# Altium schematic symbol library Diodes$.SchLib: 103 symbols
Pins are listed as number, name and electrical type; pins without a type are passive.

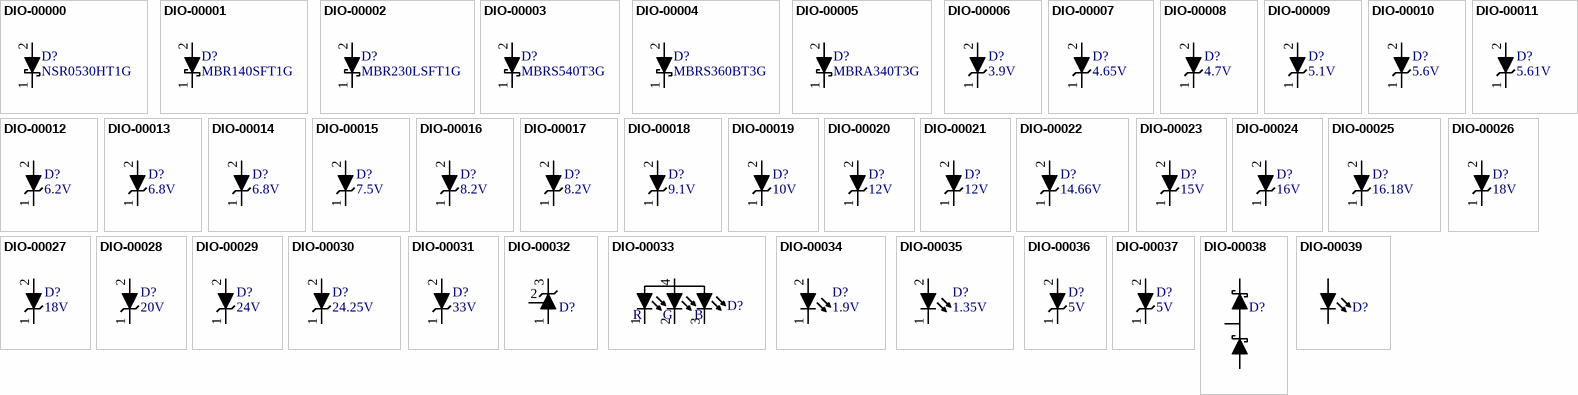
[diagram p0: symbols DIO-00000 to DIO-00039]

## DIO-00000
designator D?, comment NSR0530HT1G
Dio Shtky, 500mA, 0.62V, 30V, SOD-323; Part Number: DIO-00000; Manufacturer: ON Semi; Forward Voltage: 620mV; Type: Schottky; Reverse Breakdown Voltage: 30V; Current Rating: 500mA; Manufacturer PN: NSR0530HT1G
footprint sod323_0
pins: 1, 2

## DIO-00001
designator D?, comment MBR140SFT1G
Dio Shtky, 1A, 0.55V, 40V, SOD-123; Part Number: DIO-00001; Manufacturer: ON Semi; Forward Voltage: 550mV; Type: Schottky; Reverse Breakdown Voltage: 40V; Current Rating: 1A; Manufacturer PN: MBR140SFT1G; Distributor Link: https://www.digikey.com/en/products/detail/on-semiconductor/MBR140SFT1G/918583
footprint sod123_0
pins: 1, 2

## DIO-00002
designator D?, comment MBR230LSFT1G
Dio Shtky, 2A, 0.43V, 30V, SOD-123; Part Number: DIO-00002; Manufacturer: ON Semi; Forward Voltage: 430mV; Type: Schottky; Reverse Breakdown Voltage: 30V; Current Rating: 2A; Manufacturer PN: MBR230LSFT1G
footprint sod123_0
pins: 1, 2

## DIO-00003
designator D?, comment MBRS540T3G
Dio Shtky, 5A, 0.5V, 40V, SMC; Part Number: DIO-00003; Manufacturer: ON Semi; Forward Voltage: 500mV; Type: Schottky; Reverse Breakdown Voltage: 40V; Current Rating: 5A; Manufacturer PN: MBRS540T3G
footprint do-214ab
pins: 1, 2

## DIO-00004
designator D?, comment MBRS360BT3G
Dio Shtky, 3A, 0.63V, 60V, SMB; Part Number: DIO-00004; Manufacturer: ON Semi; Forward Voltage: 630mV; Type: Schottky; Reverse Breakdown Voltage: 60V; Current Rating: 3A; Manufacturer PN: MBRS360BT3G
footprint do-214aa
pins: 1, 2

## DIO-00005
designator D?, comment MBRA340T3G
Dio Shtky, 3A, 0.45V, 40V, SMA; Part Number: DIO-00005; Manufacturer: ON Semi; Forward Voltage: 450mV; Type: Schottky; Reverse Breakdown Voltage: 40V; Current Rating: 3A; Manufacturer PN: MBRA340T3G
footprint do-214ac
pins: 1, 2

## DIO-00006
designator D?, comment 3.9V
Dio Zen, 3.9V, 2%, 300mW, SOD-323; Part Number: DIO-00006; Manufacturer: ON Semi; Manufacturer PN: MM3Z3V9ST1G; Forward Voltage: 900mV; Type: Zener; Reverse Breakdown Voltage: 3.9V; Tolerance: 2%; Power Rating: 300mW
footprint sod323_0
pins: 1, 2

## DIO-00007
designator D?, comment 4.65V
Dio Zen, 4.65V, 2%, 200mW, SOD-923; Part Number: DIO-00007; Manufacturer: ON Semi; Manufacturer PN: NZ9F4V7ST5G; Forward Voltage: 900mV; Type: Zener; Reverse Breakdown Voltage: 4.65V; Tolerance: 2%; Power Rating: 200mW
footprint sod923_0
pins: 1, 2

## DIO-00008
designator D?, comment 4.7V
Dio Zen, 4.7V, 2%, 500mW, SOD-523; Part Number: DIO-00008; Manufacturer: ON Semi; Manufacturer PN: MM5Z4V7ST1G; Forward Voltage: 900mV; Type: Zener; Reverse Breakdown Voltage: 4.7V; Tolerance: 2%; Power Rating: 500mW
footprint sod523_0
pins: 1, 2

## DIO-00009
designator D?, comment 5.1V
Dio Zen, 5.1V, 2%, 300mW, SOD-323; Part Number: DIO-00009; Manufacturer: ON Semi; Manufacturer PN: MM3Z5V1ST1G; Forward Voltage: 900mV; Type: Zener; Reverse Breakdown Voltage: 5.1V; Tolerance: 2%; Power Rating: 300mW
footprint sod323_0
pins: 1, 2

## DIO-00010
designator D?, comment 5.6V
Dio Zen, 5.6V, 2%, 225mW, SOT-23-3; Part Number: DIO-00010; Manufacturer: ON Semi; Manufacturer PN: BZX84B5V6LT1G; Forward Voltage: 900mV; Type: Zener; Reverse Breakdown Voltage: 5.6V; Tolerance: 2%; Power Rating: 225mW
footprint sot-23-3
pins: 1, 2

## DIO-00011
designator D?, comment 5.61V
Dio Zen, 5.61V, 2%, 500mW, SOD-523; Part Number: DIO-00011; Manufacturer: ON Semi; Manufacturer PN: MM5Z5V6ST1G; Forward Voltage: 900mV; Type: Zener; Reverse Breakdown Voltage: 5.61V; Tolerance: 2%; Power Rating: 500mW
footprint sod523_0
pins: 1, 2

## DIO-00012
designator D?, comment 6.2V
Dio Zen, 6.2V, 2%, 225mW, SOT-23-3; Part Number: DIO-00012; Manufacturer: ON Semi; Manufacturer PN: BZX84B6V2LT1G; Forward Voltage: 900mV; Type: Zener; Reverse Breakdown Voltage: 6.2V; Tolerance: 2%; Power Rating: 225mW
footprint sot-23-3
pins: 1, 2

## DIO-00013
designator D?, comment 6.8V
Dio Zen, 6.8V, 2%, 200mW, SOD-323; Part Number: DIO-00013; Manufacturer: ON Semi; Manufacturer PN: MM3Z6V8ST1G; Forward Voltage: 900mV; Type: Zener; Reverse Breakdown Voltage: 6.8V; Tolerance: 2%; Power Rating: 200mW
footprint sod323_0
pins: 1, 2

## DIO-00014
designator D?, comment 6.8V
Dio Zen, 6.8V, 2%, 225mW, SOT-23-3; Part Number: DIO-00014; Manufacturer: ON Semi; Manufacturer PN: BZX84B6V8LT1G; Forward Voltage: 900mV; Type: Zener; Reverse Breakdown Voltage: 6.8V; Tolerance: 2%; Power Rating: 225mW
footprint sot-23-3
pins: 1, 2

## DIO-00015
designator D?, comment 7.5V
Dio Zen, 7.5V, 2%, 200mW, SOD-323; Part Number: DIO-00015; Manufacturer: ON Semi; Manufacturer PN: MM3Z7V5ST1G; Forward Voltage: 900mV; Type: Zener; Reverse Breakdown Voltage: 7.5V; Tolerance: 2%; Power Rating: 200mW
footprint sod323_0
pins: 1, 2

## DIO-00016
designator D?, comment 8.2V
Dio Zen, 8.2V, 2%, 300mW, SOD-323; Part Number: DIO-00016; Manufacturer: ON Semi; Manufacturer PN: MM3Z8V2ST1G; Forward Voltage: 900mV; Type: Zener; Reverse Breakdown Voltage: 8.2V; Tolerance: 2%; Power Rating: 300mW
footprint sod323_0
pins: 1, 2

## DIO-00017
designator D?, comment 8.2V
Dio Zen, 8.2V, 2%, 225mW, SOT-23-3; Part Number: DIO-00017; Manufacturer: ON Semi; Manufacturer PN: BZX84B8V2LT1G; Forward Voltage: 900mV; Type: Zener; Reverse Breakdown Voltage: 8.2V; Tolerance: 2%; Power Rating: 225mW
footprint sot-23-3
pins: 1, 2

## DIO-00018
designator D?, comment 9.1V
Dio Zen, 9.1V, 2%, 300mW, SOD-323; Part Number: DIO-00018; Manufacturer: ON Semi; Manufacturer PN: MM3Z9V1ST1G; Forward Voltage: 900mV; Type: Zener; Reverse Breakdown Voltage: 9.1V; Tolerance: 2%; Power Rating: 300mW
footprint sod323_0
pins: 1, 2

## DIO-00019
designator D?, comment 10V
Dio Zen, 10V, 2%, 200mW, SOD-323; Part Number: DIO-00019; Manufacturer: ON Semi; Manufacturer PN: MM3Z10VST1G; Forward Voltage: 900mV; Type: Zener; Reverse Breakdown Voltage: 10V; Tolerance: 2%; Power Rating: 200mW
footprint sod323_0
pins: 1, 2

## DIO-00020
designator D?, comment 12V
Dio Zen, 12V, 2%, 200mW, SOD-323; Part Number: DIO-00020; Manufacturer: ON Semi; Manufacturer PN: MM3Z12VST1G; Forward Voltage: 900mV; Type: Zener; Reverse Breakdown Voltage: 12V; Tolerance: 2%; Power Rating: 200mW
footprint sod323_0
pins: 1, 2

## DIO-00021
designator D?, comment 12V
Dio Zen, 12V, 2%, 225mW, SOT-23-3; Part Number: DIO-00021; Manufacturer: ON Semi; Manufacturer PN: BZX84B12LT1G; Forward Voltage: 900mV; Type: Zener; Reverse Breakdown Voltage: 12V; Tolerance: 2%; Power Rating: 225mW
footprint sot-23-3
pins: 1, 2

## DIO-00022
designator D?, comment 14.66V
Dio Zen, 14.66V, 2%, 200mW, SOD-323; Part Number: DIO-00022; Manufacturer: ON Semi; Manufacturer PN: MM3Z15VST1G; Forward Voltage: 900mV; Type: Zener; Reverse Breakdown Voltage: 14.66V; Tolerance: 2%; Power Rating: 200mW
footprint sod323_0
pins: 1, 2

## DIO-00023
designator D?, comment 15V
Dio Zen, 15V, 2%, 225mW, SOT-23-3; Part Number: DIO-00023; Manufacturer: ON Semi; Manufacturer PN: BZX84B15LT1G; Forward Voltage: 900mV; Type: Zener; Reverse Breakdown Voltage: 15V; Tolerance: 2%; Power Rating: 225mW
footprint sot-23-3
pins: 1, 2

## DIO-00024
designator D?, comment 16V
Dio Zen, 16V, 2%, 225mW, SOT-23-3; Part Number: DIO-00024; Manufacturer: ON Semi; Manufacturer PN: BZX84B16LT1G; Forward Voltage: 900mV; Type: Zener; Reverse Breakdown Voltage: 16V; Tolerance: 2%; Power Rating: 225mW
footprint sot-23-3
pins: 1, 2

## DIO-00025
designator D?, comment 16.18V
Dio Zen, 16.18V, 2%, 200mW, SOD-323; Part Number: DIO-00025; Manufacturer: ON Semi; Manufacturer PN: MM3Z16VST1G; Forward Voltage: 900mV; Type: Zener; Reverse Breakdown Voltage: 16.18V; Tolerance: 2%; Power Rating: 200mW; Distributor Link: https://www.digikey.com/en/products/detail/on-semiconductor/MM3Z16VST1G/1481864
footprint sod323_0
pins: 1, 2

## DIO-00026
designator D?, comment 18V
Dio Zen, 18V, 2%, 200mW, SOD-323; Part Number: DIO-00026; Manufacturer: ON Semi; Manufacturer PN: SZMM3Z18VST1G; Forward Voltage: 900mV; Type: Zener; Reverse Breakdown Voltage: 18V; Tolerance: 2%; Power Rating: 200mW
footprint sod323_0
pins: 1, 2

## DIO-00027
designator D?, comment 18V
Dio Zen, 18V, 2%, 200mW, SOD-323; Part Number: DIO-00027; Manufacturer: ON Semi; Manufacturer PN: MM3Z18VST1G; Forward Voltage: 900mV; Type: Zener; Reverse Breakdown Voltage: 18V; Tolerance: 2%; Power Rating: 200mW
footprint sod323_0
pins: 1, 2

## DIO-00028
designator D?, comment 20V
Dio Zen, 20V, 2%, 500mW, SOD-123; Part Number: DIO-00028; Manufacturer: ON Semi; Manufacturer PN: MMSZ5250CT1G; Forward Voltage: 900mV; Type: Zener; Reverse Breakdown Voltage: 20V; Tolerance: 2%; Power Rating: 500mW
footprint sod123_0
pins: 1, 2

## DIO-00029
designator D?, comment 24V
Dio Zen, 24V, 2%, 500mW, SOD-123; Part Number: DIO-00029; Manufacturer: ON Semi; Manufacturer PN: MMSZ5252CT1G; Forward Voltage: 900mV; Type: Zener; Reverse Breakdown Voltage: 24V; Tolerance: 2%; Power Rating: 500mW
footprint sod123_0
pins: 1, 2

## DIO-00030
designator D?, comment 24.25V
Dio Zen, 24.25V, 2%, 200mW, SOD-323; Part Number: DIO-00030; Manufacturer: ON Semi; Manufacturer PN: MM3Z24VST1G; Forward Voltage: 900mV; Type: Zener; Reverse Breakdown Voltage: 24.25V; Tolerance: 2%; Power Rating: 200mW
footprint sod323_0
pins: 1, 2

## DIO-00031
designator D?, comment 33V
Dio Zen, 33V, 2%, 200mW, SOD-323; Part Number: DIO-00031; Manufacturer: ON Semi; Manufacturer PN: MM3Z33VST1G; Forward Voltage: 900mV; Type: Zener; Reverse Breakdown Voltage: 33V; Tolerance: 2%; Power Rating: 200mW
footprint sod323_0
pins: 1, 2

## DIO-00032
designator D?, comment shunt_adj_0  (value not drawn)
Shunt Adj, 2.5V, 0.5%, SOT-23-3; Part Number: DIO-00032; Manufacturer: Diodes; Manufacturer PN: ZTL431BFTA; Type: Adjustable Shunt; Reverse Breakdown Voltage: 2.5V; Tolerance: 0.5%
footprint sot-23-3
pins: 1, 2 3, 3

## DIO-00033
designator D?, comment led_4_ca_0  (value not drawn)
LED, RGB, Comm-Anode, PLCC-4; Part Number: DIO-00033; Manufacturer: Avago; Manufacturer PN: ASMB-MTB1-0A3A2; Forward Voltage: 2V; Current Rating: 20mA; Type: LED
footprint plcc-4
pins: 1, 2, 3, 4
text: R; G; B

## DIO-00034
designator D?, comment 1.9V
LED, Orange, PLCC-4; Part Number: DIO-00034; Manufacturer: Avago; Manufacturer PN: HSML-A101-S00J1; Current Rating: 20mA; Forward Voltage: 1.9V; Type: LED
footprint plcc-2
pins: 1, 2

## DIO-00035
designator D?, comment 1.35V
LED, 940nm, 80mW/sr, 100mA; Part Number: DIO-00035; Manufacturer: Vishay; Manufacturer PN: TSAL6100; Forward Voltage: 1.35V; Current Rating: 100mA; Type: LED
footprint LED_0.1_0
pins: 1, 2

## DIO-00036
designator D?, comment 5V
TVS, 5V, 400W, Unidirectional; Part Number: DIO-00036; Manufacturer: ST; Manufacturer PN: SMAJ5.0A-TR; Reverse Breakdown Voltage: 5V; Power Rating: 400W; Type: TVS; Cost: 0.48
footprint do-214ac
pins: 1, 2

## DIO-00037
designator D?, comment 5V
TVS, 5V, 500W, SOD-323; Part Number: DIO-00037; Manufacturer: ST; Manufacturer PN: ESDA8V2-1J; Reverse Breakdown Voltage: 5V; Power Rating: 500W; Type: TVS; Cost: 0.33
footprint sod323_0
pins: 1, 2

## DIO-00038
designator D?, comment diode_6  (value not drawn)
Dio Schottky, series, 225mW, SOT-23-3; Part Number: DIO-00038; Manufacturer: ON Semi; Manufacturer PN: BAT54SLT1G; Forward Voltage: 800mV; Reverse Breakdown Voltage: 30V; Current Rating: 200mA; Power Rating: 225mW; Type: Schottky; Cost: 0.19
footprint sot-23-3
pins: 1, 2, 3

## DIO-00039
designator D?, comment diode_7  (value not drawn)
LED, cool white, PLCC-4; Part Number: DIO-00039; Manufacturer: Cree; Manufacturer PN: CLA1B-WKW-XD0F0E13; Forward Voltage: 3.2V; Power Rating: 304mW; Current Rating: 30mA; Type: LED
footprint plcc-4
pins: 2, 4

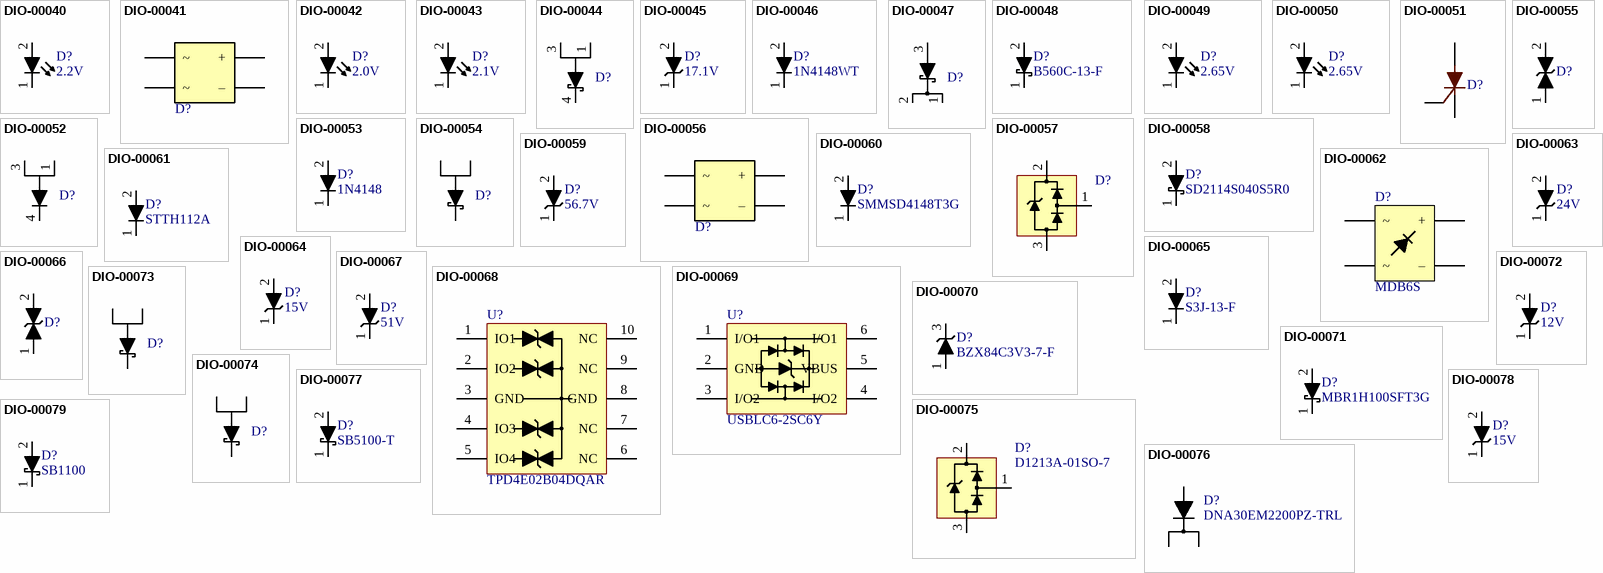
[diagram p1: symbols DIO-00040 to DIO-00079]

## DIO-00040
designator D?, comment 2.2V
LED, Green, 0603, 20mA; Part Number: DIO-00040; Manufacturer: Rohm Semi; Manufacturer PN: SML-D12M8WT86; Reverse Breakdown Voltage: 5V; Power Rating: 54mW; Forward Voltage: 2.2V; Current Rating: 20mA; Type: LED; Cost: 0.34
footprint chip_0603_LED
pins: 1, 2

## DIO-00041
designator D?, comment rect_0  (value not drawn)
Dio Bridge Rect, 35A; Part Number: DIO-00041; Manufacturer: Vishay; Manufacturer PN: GBPC3502W-E4/51; Forward Voltage: 1.1V; Current Rating: 35A; Type: Bridge; Cost: 5.26
footprint rect_GBPC-W
pins: 1 +, 2 ~, 3 ~, 4 –

## DIO-00042
designator D?, comment 2.0V
LED, Red, 75mW, 30mA; Part Number: DIO-00042; Manufacturer: Kingbright; Manufacturer PN: APA3010EC-GX; Reverse Breakdown Voltage: 5V; Forward Voltage: 2.0V; Power Rating: 75mW; Current Rating: 30mA; Type: LED
footprint APA3010
pins: 1, 2

## DIO-00043
designator D?, comment 2.1V
LED, Green, 75mW, 30mA; Part Number: DIO-00043; Manufacturer: Kingbright; Manufacturer PN: APA3010QGC-GX; Reverse Breakdown Voltage: 5V; Forward Voltage: 2.1V; Power Rating: 75mW; Current Rating: 30mA; Type: LED
footprint APA3010
pins: 1, 2

## DIO-00044
designator D?, comment diode_8  (value not drawn)
Dio Schottky, 40A, 0.86V, 250V, D2PAK, 35ns Reverse Recovery; Part Number: DIO-00044; Manufacturer: ON Semi; Manufacturer PN: MBRB40250TG; Forward Voltage: 0.86V; Reverse Breakdown Voltage: 250V; Current Rating: 40A; Type: Schottky; Cost: 2.01
footprint D2PAK-3_0
pins: 1, 3, 4

## DIO-00045
designator D?, comment 17.1V
Dio Zen, 17.1V, 590mW; Part Number: DIO-00045; Manufacturer: Nexperia; Manufacturer PN: BZT52-C16J; Forward Voltage: 0.9V; Tolerance: 5%; Current Rating: 250mA; Type: Zener; Reverse Breakdown Voltage: 17.1V; Power Rating: 590mW; Cost: 0.19
footprint sod123_0
pins: 1, 2

## DIO-00046
designator D?, comment 1N4148WT
Dio, Silicon, 200mA, 1V, 75V, SOD-523; Part Number: DIO-00046; Manufacturer: ON Semi; Forward Voltage: 1V; Reverse Breakdown Voltage: 75V; Current Rating: 200mA; Type: Silicon; Manufacturer PN: 1N4148WT; Cost: 0.19
footprint sod523_0
pins: 1, 2

## DIO-00047
designator D?, comment diode_9  (value not drawn)
Dio, SiC Schottky, 10A, 1.8V, 1.2kV, Dpak; Part Number: DIO-00047; Manufacturer: Cree/Wolfspeed; Manufacturer PN: C4D02120E; Reverse Breakdown Voltage: 1200V; Power Rating: 60W; Forward Voltage: 1.8V; Current Rating: 10A; Type: SiC Schottky; Cost: 2.26
footprint DPAK_0
pins: 1 C1, 2 C2, 3 A

## DIO-00048
designator D?, comment B560C-13-F
Dio, Schottky, 5A, 700mV, 60V, SMC; Part Number: DIO-00048; Manufacturer: Diodes Incorporated; Forward Voltage: 700mV; Reverse Breakdown Voltage: 60V; Current Rating: 5A; Type: Schottky; Manufacturer PN: B560C-13-F; Cost: 0.5
footprint do-214ab
pins: 1, 2

## DIO-00049
designator D?, comment 2.65V
LED, Blue, 0603, Low current, HELI2 Series; Part Number: DIO-00049; Manufacturer: Kingbright; Manufacturer PN: APT1608LVBC/D; Reverse Breakdown Voltage: 5V; Power Rating: 120mW; Current Rating: 30mA; Forward Voltage: 2.65V; Type: LED; Cost: 0.58; Distributor Link: https://www.digikey.com/en/products/detail/kingbright/APT1608LVBC-D/5177434
footprint chip_0603_LED
pins: 1, 2

## DIO-00050
designator D?, comment 2.65V
LED, Green, 0603, Low current, HELI2 Series; Part Number: DIO-00050; Manufacturer: Kingbright; Manufacturer PN: APT1608LZGCK; Reverse Breakdown Voltage: 5V; Power Rating: 120mW; Current Rating: 30mA; Forward Voltage: 2.65V; Type: LED; Cost: 0.58
footprint chip_0603_LED
pins: 1, 2

## DIO-00051
designator D?, comment scr_0  (value not drawn)
SCR, 1.6kV 48A, 100mA trigger, TO-247; Part Number: DIO-00051; Manufacturer: Ixys; Manufacturer PN: CS45-16IO1R; Forward Voltage: 1.64V; Reverse Breakdown Voltage: 1.6kV; Current Rating: 48A; Type: SCR; Cost: 6.23
footprint TO-247_0
pins: 1 K, 2 A, 3 G

## DIO-00052
designator D?, comment diode_10  (value not drawn)
Dio, Silicon, 30A, 1.25V, 1.6kV, D2PAK; Part Number: DIO-00052; Manufacturer: Ixys; Manufacturer PN: DSI30-16AS-TRL; Power Rating: 160W; Forward Voltage: 1.25V; Reverse Breakdown Voltage: 1.6kV; Current Rating: 30A; Type: Silicon; Cost: 2.19
footprint D2PAK-3_1
pins: 1, 3, 4

## DIO-00053
designator D?, comment 1N4148
Dio, Silicon, 200mA, 1V, 75V, Axial 0.2"; Part Number: DIO-00053; Forward Voltage: 1V; Reverse Breakdown Voltage: 75V; Current Rating: 200mA; Type: Silicon; Manufacturer PN: 1N4148
footprint AXIAL_DIO_0.2
pins: 1, 2

## DIO-00054
designator D?, comment diode_sch_A12C3  (value not drawn)
Dio, Schottky, 15A, 0.85V, 150V, TO-227; Part Number: DIO-00054; Manufacturer: ON Semi; Manufacturer PN: FSV15150V; Forward Voltage: 0.85V; Reverse Breakdown Voltage: 150V; Current Rating: 15A; Type: Schottky; Cost: 0.82; Distributor Link: https://www.digikey.com/en/products/detail/on-semiconductor/FSV15150V/5306664?s=N4IgTCBcDaIGIGUBqBGArOgDEkBdAvkA
footprint TO-277-3
pins: 1, 2, 3

## DIO-00055
designator D?, comment diode_5  (value not drawn)
TVS, 5V, 400W, Bidirectional; Part Number: DIO-00055; Manufacturer: ST; Manufacturer PN: SMAJ5.0CA-TR; Reverse Breakdown Voltage: 5V; Power Rating: 400W; Type: TVS; Cost: 0.43
footprint do-214ac
pins: 1, 2

## DIO-00056
designator D?, comment rect_0  (value not drawn)
Bridge, 25A, 1.05V, 600V, GBJ; Part Number: DIO-00056; Manufacturer: Diodes Incorporated; Manufacturer PN: GBJ2506-F; Forward Voltage: 1.05V; Reverse Breakdown Voltage: 600V; Current Rating: 25A; Type: Bridge; Cost: 1.33
footprint SIP-4-GBJ
pins: 1 +, 2 ~, 3 ~, 4 –

## DIO-00057
designator D?, comment DLPT05  (value not drawn)
TVS, Steering (Rail-Rail), 9.8V Clamping, 17A Peak Pulse, SOT-23; Part Number: DIO-00057; Manufacturer: Diodes Incorporated; Manufacturer PN: DLPT05-7-F; Reverse Breakdown Voltage: 6.0V; Type: TVS; Cost: 0.38; Distributor Link: https://www.digikey.com/en/products/detail/diodes-incorporated/DLPT05-7-F/808520
footprint sot-23-3
pins: 1 LINE, 2 VCC, 3 GND

## DIO-00058
designator D?, comment SD2114S040S5R0
Dio, Schottky, 5A, 520mV, 40V, DO-214AB; Part Number: DIO-00058; Manufacturer: AVX; Forward Voltage: 0.52V; Reverse Breakdown Voltage: 40V; Current Rating: 5A; Type: Schottky; Manufacturer PN: SD2114S040S5R0; Cost: 0.74
footprint do-214ab
pins: 1, 2

## DIO-00059
designator D?, comment 56.7V
TVS, 51V, 4.9A 400W, Unidirectional, DO-214AC; Part Number: DIO-00059; Manufacturer: Littelfuse; Manufacturer PN: SMAJ51A; Reverse Breakdown Voltage: 56.7V; Power Rating: 400W; Current Rating: 4.9A; Type: TVS; Cost: 0.4
footprint do-214ac
pins: 1, 2

## DIO-00060
designator D?, comment SMMSD4148T3G
Dio, Silicon, 200mA, 1V, 100V, SOD-123; Part Number: DIO-00060; Manufacturer: ON Semi; Forward Voltage: 1.0V; Reverse Breakdown Voltage: 100V; Current Rating: 200mA; Type: Silicon; Manufacturer PN: SMMSD4148T3G; Cost: 0.38
footprint sod123_0
pins: 1, 2

## DIO-00061
designator D?, comment STTH112A
Dio, Silicon, 1A, 1.65V, 1.2kV, High Voltage, 75ns RR-time, DO-214AC; Part Number: DIO-00061; Manufacturer: ST; Reverse Breakdown Voltage: 1200V; Forward Voltage: 1.65V; Current Rating: 1A; Type: Silicon; Manufacturer PN: STTH112A; Cost: 0.42
footprint do-214ac
pins: 1, 2

## DIO-00062
designator D?, comment MDB6S
Dio Bridge Rect, 600V 1A, 4-MicroDIP/SMD; Part Number: DIO-00062; Manufacturer: ON Semi; Forward Voltage: 1.1V; Type: Silicon; Reverse Breakdown Voltage: 600V; Current Rating: 1A; Manufacturer PN: MDB6S; Cost: 0.35
footprint 4-MICRO-DIP-SMD
pins: 1 +, 2 –, 3 ~, 4 ~

## DIO-00063
designator D?, comment 24V
Dio, Zen, 24V 1W, SMA/DO-214AC; Part Number: DIO-00063; Manufacturer: Diodes Incorporated; Manufacturer PN: SMAZ24-13-F; Forward Voltage: 1.2V; Tolerance: 5%; Type: Zener; Reverse Breakdown Voltage: 24V; Power Rating: 1W; Cost: 0.45
footprint do-214ac
pins: 1, 2

## DIO-00064
designator D?, comment 15V
Dio, Zen, 15V 1W, SMA/DO-214AC; Part Number: DIO-00064; Manufacturer: Diodes Incorporated; Manufacturer PN: SMAZ15-13-F; Forward Voltage: 1.2V; Tolerance: 5%; Type: Zener; Reverse Breakdown Voltage: 15V; Power Rating: 1W; Cost: 0.45
footprint do-214ac
pins: 1, 2

## DIO-00065
designator D?, comment S3J-13-F
Dio, Silicon, 3A, 600V, DO-214AB; Part Number: DIO-00065; Manufacturer: Diodes Incorporated; Forward Voltage: 1.15V; Power Rating: 3.45W; Reverse Breakdown Voltage: 600V; Current Rating: 3A; Type: Silicon; Manufacturer PN: S3J-13-F; Cost: 0.35
footprint do-214ab
pins: 1, 2

## DIO-00066
designator D?, comment diode_5  (value not drawn)
TVS, 12V, 19.9V@40A, 400W 40A Peak, Bidirectional, DO-214AC; Part Number: DIO-00066; Manufacturer: Bourns; Manufacturer PN: SMAJ12CA; Reverse Breakdown Voltage: 14.7V; Power Rating: 400W; Current Rating: 40A; Type: TVS; Cost: 0.4
footprint do-214ac
pins: 1, 2

## DIO-00067
designator D?, comment 51V
Dio, Zen, 51V, 6%, 410mW, SOD-123; Part Number: DIO-00067; Manufacturer: Diodes Incorporated; Manufacturer PN: BZT52C51-7-F; Type: Zener; Reverse Breakdown Voltage: 51V; Tolerance: 6%; Power Rating: 410mW; Cost: 0.2
footprint sod123_0
pins: 1, 2

## DIO-00068
designator U?, comment TPD4E02B04DQAR
TVS, 4-Ch, ESD Protec, 3.6V 8.8V 10-USON; Part Number: DIO-00068; Manufacturer: TI; Power Rating: 17W; Current Rating: 2A; Type: TVS; Manufacturer PN: TPD4E02B04DQAR; Cost: 0.56; Distributor Link: https://www.digikey.com/en/products/detail/texas-instruments/TPD4E02B04DQAR/5880125
footprint USON-10
pins: 1 IO1, 2 IO2, 3 GND, 4 IO3, 5 IO4, 6 NC, 7 NC, 8 GND, 9 NC, 10 NC

## DIO-00069
designator U?, comment USBLC6-2SC6Y
ESD Protec, 2-Ch, 2.5pF, 17V clamping voltage, SOT23-6; Part Number: DIO-00069; Manufacturer: ST; Forward Voltage: 1.1V; Reverse Breakdown Voltage: 6V; Current Rating: 5A; Type: TVS; Manufacturer PN: USBLC6-2SC6Y; Cost: 0.73; Distributor Link: https://www.digikey.com/en/products/detail/stmicroelectronics/USBLC6-2SC6Y/2819177
footprint sot-23-6
pins: 1 I/O1, 2 GND, 3 I/O2, 4 I/O2, 5 VBUS, 6 I/O1

## DIO-00070
designator D?, comment BZX84C3V3-7-F
Dio, Zener, 3.3V 6% 300mW SOT-23-3; Part Number: DIO-00070; Manufacturer: Diodes Incorporated; Forward Voltage: 0.9V; Reverse Breakdown Voltage: 3.3V; Tolerance: 6%; Power Rating: 300mW; Type: Zener; Manufacturer PN: BZX84C3V3-7-F; Cost: 0.16
footprint sot-23-3
pins: 1, 3

## DIO-00071
designator D?, comment MBR1H100SFT3G
Dio, Schottky, 1A 100V SOD-123F; Part Number: DIO-00071; Manufacturer: ON Semi; Forward Voltage: 0.76V; Reverse Breakdown Voltage: 100V; Current Rating: 1A; Type: Schottky; Manufacturer PN: MBR1H100SFT3G; Cost: 0.44
footprint sod123_0
pins: 1, 2

## DIO-00072
designator D?, comment 12V
Dio, Zener, 12V 5% 500mW SOD-123; Part Number: DIO-00072; Manufacturer: ON Semi; Manufacturer PN: MMSZ5242BT1G; Forward Voltage: 0.9V; Current Rating: 40mA; Reverse Breakdown Voltage: 12V; Tolerance: 5%; Power Rating: 500mW; Type: Zener; Cost: 0.21
footprint sod123_0
pins: 1, 2

## DIO-00073
designator D?, comment diode_sch_A12C3  (value not drawn)
Dio, Schottky, 10A, 0.67V, 100V, TO-227; Part Number: DIO-00073; Manufacturer: ON Semi; Manufacturer PN: FSV10100V; Forward Voltage: 0.67V; Reverse Breakdown Voltage: 100V; Current Rating: 10A; Type: Schottky; Cost: 0.59
footprint TO-277-3
pins: 1, 2, 3

## DIO-00074
designator D?, comment diode_sch_A12C3  (value not drawn)
Dio, Schottky, 5A, 0.63V, 60V, TO-227; Part Number: DIO-00074; Manufacturer: Vishay; Manufacturer PN: SS5P6-M3/86A; Forward Voltage: 0.63V; Reverse Breakdown Voltage: 60V; Current Rating: 5A; Type: Schottky; Cost: 0.6; Distributor Link: https://www.digikey.com/en/products/detail/vishay-general-semiconductor-diodes-division/SS5P6-M3-86A/2048208
footprint TO-277-3
pins: 1, 2, 3

## DIO-00075
designator D?, comment D1213A-01SO-7
TVS, Rail-Rail Steering + Zener Clamp, 3.3V Standoff, 10V Clamping; Part Number: DIO-00075; Manufacturer: Diodes Incorporated; Reverse Breakdown Voltage: 6V; Current Rating: 1A; Type: TVS; Manufacturer PN: D1213A-01SO-7; Cost: 0.35
footprint SOT-23-3_1
pins: 1 LINE, 2 VCC, 3 GND

## DIO-00076
designator D?, comment DNA30EM2200PZ-TRL
Dio, Silicon, High Voltage Rectifier, 30A 2200V, D2PAK (TO-263); Part Number: DIO-00076; Manufacturer: IXYS; Forward Voltage: 1.24V; Type: Standard; Reverse Breakdown Voltage: 2200V; Current Rating: 30A; Manufacturer PN: DNA30EM2200PZ-TRL; Cost: 3.68
footprint D2PAK-3_HV
pins: 1, 3, 4

## DIO-00077
designator D?, comment SB5100-T
Dio, Schottky Barrier Rectifier, 100V 5A, 150A Surge, THT; Part Number: DIO-00077; Manufacturer: Diodes Incorporated; Forward Voltage: 0.8V; Reverse Breakdown Voltage: 100V; Current Rating: 5A; Type: Schottky; Manufacturer PN: SB5100-T; Cost: 0.68
footprint AXIAL_DIO_0.5_SCHOTTKY
pins: 1, 2

## DIO-00078
designator D?, comment 15V
Dio, Zener, 15V 500mW Axial 0.4"; Part Number: DIO-00078; Reverse Breakdown Voltage: 15V; Type: Zener
footprint AXIAL_DIO_0.4_ZENER
pins: 1, 2

## DIO-00079
designator D?, comment SB1100
Dio, Schottky, 1A 100V Axial 0.4"; Part Number: DIO-00079; Manufacturer: ON Semi; Forward Voltage: 0.85V; Reverse Breakdown Voltage: 100V; Current Rating: 1A; Type: Schottky; Manufacturer PN: SB1100; Cost: 0.36
footprint AXIAL_DIO_0.4_SCHOTTKY
pins: 1, 2

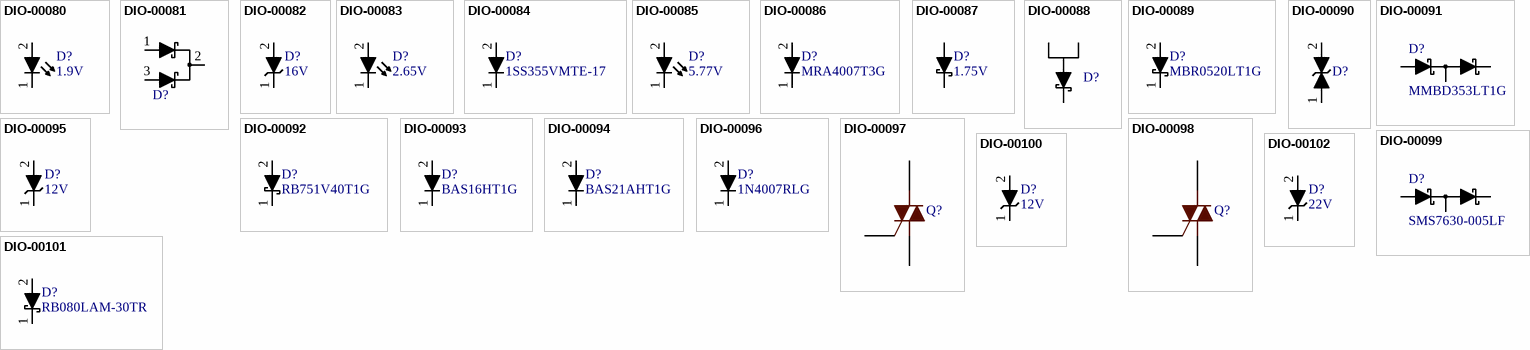
[diagram p2: symbols DIO-00080 to DIO-00102]

## DIO-00080
designator D?, comment 1.9V
LED, Red, 5mm Thru-Hole; Part Number: DIO-00080; Power Rating: 105mW; Current Rating: 20mA; Forward Voltage: 1.9V; Type: LED; Cost: 0.1
footprint LED_5MM_RED
pins: 1, 2

## DIO-00081
designator D?, comment V40PWM10C-M3/I  (value not drawn)
Dio, Schottky Array, Dual, Common Cathode, 100V 20A, SLIM DPAK; Part Number: DIO-00081; Manufacturer: Vishay; Forward Voltage: 0.89V; Reverse Breakdown Voltage: 100V; Current Rating: 20A; Type: Schottky; Manufacturer PN: V40PWM10C-M3/I; Cost: 1.37
footprint DPAK_SLIM
pins: 1 A, 2 K, 3 A

## DIO-00082
designator D?, comment 16V
Dio, Zener, 16V 300mW, SOD-523; Part Number: DIO-00082; Manufacturer: Nexperia; Manufacturer PN: BZX585-C16,115; Forward Voltage: 1.1V; Tolerance: 5%; Current Rating: 100mA; Reverse Breakdown Voltage: 16V; Power Rating: 300mW; Type: Zener; Cost: 0.25
footprint sod523_0
pins: 1, 2

## DIO-00083
designator D?, comment 2.65V
LED, Green, SMD Right-Angle, Low-Current, Kingbright HELI2 Series; Part Number: DIO-00083; Manufacturer PN: APA2107LZGCK; Reverse Breakdown Voltage: 5V; Power Rating: 102.5mW; Current Rating: 25mA; Forward Voltage: 2.65V; Type: LED; Manufacturer: Kingbright; Cost: 0.51
footprint APA2107
pins: 1, 2

## DIO-00084
designator D?, comment 1SS355VMTE-17
Dio, Silicon, High Speed Switching, 80V 100mA, SOD-323; Part Number: DIO-00084; Manufacturer: Rohm Semi; Forward Voltage: 1.2V; Reverse Breakdown Voltage: 80V; Current Rating: 100mA; Type: Silicon; Manufacturer PN: 1SS355VMTE-17; Cost: 0.18
footprint sod323_0
pins: 1, 2

## DIO-00085
designator D?, comment 5.77V
LED, WHITE 4000K JR5050 6V (5W); Part Number: DIO-00085; Manufacturer: Cree Inc.; Manufacturer PN: JR5050AWT-P-B40EB0000-N0000001; Reverse Breakdown Voltage: 5V; Current Rating: 1A; Forward Voltage: 5.77V; Power Rating: 5W; Type: LED; Cost: 0.6
footprint CREE-JR5050
pins: 1, 2

## DIO-00086
designator D?, comment MRA4007T3G
Dio, Silicon, General Purpose, 1000V 1A, SMA; Part Number: DIO-00086; Manufacturer: ON Semi; Forward Voltage: 1.1V; Reverse Breakdown Voltage: 1000V; Current Rating: 1A; Type: Silicon; Manufacturer PN: MRA4007T3G; Cost: 0.3
footprint do-214ac
pins: 1, 2

## DIO-00087
designator D?, comment 1.75V
Dio, SiC Schottky, 10A, 1.75V, 650V, DPAK; Part Number: DIO-00087; Manufacturer: ST; Manufacturer PN: STPSC10H065B-TR; Forward Voltage: 1.75V; Reverse Breakdown Voltage: 650V; Current Rating: 10A; Type: Schottky; Cost: 3.31
footprint DPAK_0
pins: 2, 3

## DIO-00088
designator D?, comment diode_sch_A12C3  (value not drawn)
Dio, Schottky, 7A, 0.62V, 60V, PowerDI5; Part Number: DIO-00088; Manufacturer: ON Semi; Manufacturer PN: PDS760-13; Forward Voltage: 0.62V; Reverse Breakdown Voltage: 60V; Current Rating: 7A; Type: Schottky; Cost: 1.02
footprint POWERDI5
pins: 1, 2, 3

## DIO-00089
designator D?, comment MBR0520LT1G
Dio, Schottky, 0.5A, 0.385V, 20V, SOD-123; Part Number: DIO-00089; Manufacturer: ON Semi; Current Rating: 500mA; Forward Voltage: 0.385V; Reverse Breakdown Voltage: 20V; Type: Schottky; Manufacturer PN: MBR0520LT1G; Cost: 0.34; Distributor Link: https://www.digikey.com/en/products/detail/on-semiconductor/MBR0520LT1G/918574
footprint sod123_0
pins: 1, 2

## DIO-00090
designator D?, comment diode_5  (value not drawn)
TVS, 28V, 45.5V@66A, 3kW 66A Peak, Bidirectional, DO-214AC; Part Number: DIO-00090; Manufacturer: ST; Manufacturer PN: SMC30J28CA; Reverse Breakdown Voltage: 31.1V; Power Rating: 3000W; Current Rating: 66A; Type: TVS; Cost: 1.2; Distributor Link: https://www.digikey.com/en/products/detail/stmicroelectronics/SMC30J28CA/2826980
footprint do-214ab
pins: 1, 2

## DIO-00091
designator D?, comment MMBD353LT1G
Dio, RF Schottky, 1 Pair Series, Vr=7V, 225mW, SOT-23-3; Part Number: DIO-00091; Manufacturer: ON Semi; Forward Voltage: 0.5V; Reverse Breakdown Voltage: 7V; Current Rating: 10mA; Power Rating: 225mW; Type: Schottky; Manufacturer PN: MMBD353LT1G; Cost: 0.39; Distributor Link: https://www.digikey.com/en/products/detail/on-semiconductor/MMBD353LT1G/919569
footprint SOT-23-3_1
pins: 1, 2, 3

## DIO-00092
designator D?, comment RB751V40T1G
Dio, Schottky, 30V 30mA, 500nA Reverse Leakage, SOD-323; Part Number: DIO-00092; Manufacturer: ON Semi; Forward Voltage: 0.37V; Reverse Breakdown Voltage: 30V; Current Rating: 30mA; Type: Schottky; Manufacturer PN: RB751V40T1G; Cost: 0.22; Distributor Link: https://www.digikey.com/en/products/detail/on-semiconductor/RB751V40T1G/920294
footprint sod323_0
pins: 1, 2

## DIO-00093
designator D?, comment BAS16HT1G
Dio, Silicon, 100V 200mA, SOD-323; Part Number: DIO-00093; Manufacturer: ON Semi; Forward Voltage: 1.25V; Reverse Breakdown Voltage: 100V; Current Rating: 200mA; Type: Silicon; Manufacturer PN: BAS16HT1G; Cost: 0.11; Distributor Link: https://www.digikey.com/en/products/detail/on-semiconductor/BAS16HT1G/918301
footprint sod323_0
pins: 1, 2

## DIO-00094
designator D?, comment BAS21AHT1G
Dio, Silicon, 250V 200mA, Low Leakage, SOD-323; Part Number: DIO-00094; Manufacturer: ON Semi; Forward Voltage: 1.25V; Reverse Breakdown Voltage: 250V; Current Rating: 200mA; Type: Silicon; Manufacturer PN: BAS21AHT1G; Cost: 0.18; Distributor Link: https://www.digikey.com/en/products/detail/on-semiconductor/BAS21AHT1G/1792156
footprint sod323_0
pins: 1, 2

## DIO-00095
designator D?, comment 12V
Dio, Zener, 12V 500mW DO-35; Part Number: DIO-00095; Manufacturer: ON Semi; Manufacturer PN: 1N5242BTR; Forward Voltage: 1.2V; Tolerance: 5%; Current Rating: 200mA; Reverse Breakdown Voltage: 12V; Power Rating: 500mW; Type: Zener; Cost: 0.14; Distributor Link: https://www.digikey.com/en/products/detail/on-semiconductor/1N5242BTR/977598
footprint AXIAL_DIO_0.4_ZENER
pins: 1, 2

## DIO-00096
designator D?, comment 1N4007RLG
Dio, Silicon, 1000V 1A, General Purpose, 1N4007, DO-41; Part Number: DIO-00096; Manufacturer: ON Semi; Forward Voltage: 1.1V; Reverse Breakdown Voltage: 1000V; Current Rating: 1A; Type: Silicon; Manufacturer PN: 1N4007RLG; Cost: 0.2; Distributor Link: https://www.digikey.com/en/products/detail/on-semiconductor/1N4007RLG/918021
footprint AXIAL_DIO_0.4
pins: 1, 2

## DIO-00097
designator Q?, comment triac  (value not drawn)
Triac, 600V 16A, 10mA Gate Trigger, TO-220 Vertical; Part Number: DIO-00097; Manufacturer: ST; Manufacturer PN: T1610H-6T; Forward Voltage: 1.3V; Reverse Breakdown Voltage: 600V; Current Rating: 16A; Type: Triac; Cost: 1.22; Distributor Link: https://www.digikey.com/en/products/detail/stmicroelectronics/T1610H-6T/4384276
footprint TO-220_0
pins: 1 M1, 2 M2, 3 G

## DIO-00098
designator Q?, comment triac  (value not drawn)
Triac, 600V 16A, 10mA Gate Trigger, Horizontal TO-220; Part Number: DIO-00098; Manufacturer: ST; Manufacturer PN: T1610H-6T; Forward Voltage: 1.3V; Reverse Breakdown Voltage: 600V; Current Rating: 16A; Type: Triac; Cost: 1.22; Distributor Link: https://www.digikey.com/en/products/detail/stmicroelectronics/T1610H-6T/4384276
footprint TO-220-H
pins: 1 M1, 2 M2, 3 G

## DIO-00099
designator D?, comment SMS7630-005LF
Dio, RF Schottky, 1 Pair Series, 2V Peak Reverse, 50mA, SOT-23-3; Part Number: DIO-00099; Manufacturer: Skyworks; Power Rating: 75mW; Reverse Breakdown Voltage: 2V; Current Rating: 50mA; Type: Schottky; Manufacturer PN: SMS7630-005LF; Cost: 0.75; Distributor Link: https://www.digikey.com/en/products/detail/skyworks-solutions-inc/SMS7630-005LF/5396274
footprint SOT-23-3_1
pins: 1, 2, 3

## DIO-00100
designator D?, comment 12V
Dio, Zener, 12V 1W, SMA/DO-214AC; Part Number: DIO-00100; Manufacturer: Diodes Incorporated; Manufacturer PN: SMAZ12-13-F; Forward Voltage: 1.2V; Reverse Breakdown Voltage: 12V; Power Rating: 1W; Type: Zener; Cost: 0.47; Distributor Link: https://www.digikey.com/en/products/detail/diodes-incorporated/SMAZ12-13-F/725035
footprint do-214ac
pins: 1, 2

## DIO-00101
designator D?, comment RB080LAM-30TR
Dio, Schottky, 30V 5A, Vf 510mV@5A, SOD-128; Part Number: DIO-00101; Manufacturer: Rohm Semi; Forward Voltage: 0.51V; Reverse Breakdown Voltage: 30V; Current Rating: 5A; Type: Schottky; Manufacturer PN: RB080LAM-30TR; Cost: 0.43; Distributor Link: https://www.digikey.com/en/products/detail/rohm-semiconductor/RB080LAM-30TR/7318338
footprint sod128_0
pins: 1, 2

## DIO-00102
designator D?, comment 22V
TVS, 20V, 30V@334A,22.5kW 334A peak, Unidirectional, DO-214AB; Part Number: DIO-00102; Manufacturer: ST; Manufacturer PN: LNBTVS4-222S; Reverse Breakdown Voltage: 22V; Type: TVS; Cost: 1.38; Distributor Link: https://www.digikey.com/en/products/detail/stmicroelectronics/LNBTVS4-222S/1007410
footprint do-214ac
pins: 1, 2